# Altium footprint library pin-header.PcbLib: 1 footprints
Each footprint in its own frame and in the unit in brackets; x right, y up, seen from the top. Pads: shape width x height; smd on the part's side, far side on the other; paste and mask are expansions set on the pad; w line width, h text height; cw(c..) or ccw(c..) is an arc to the next point about the centre after c.
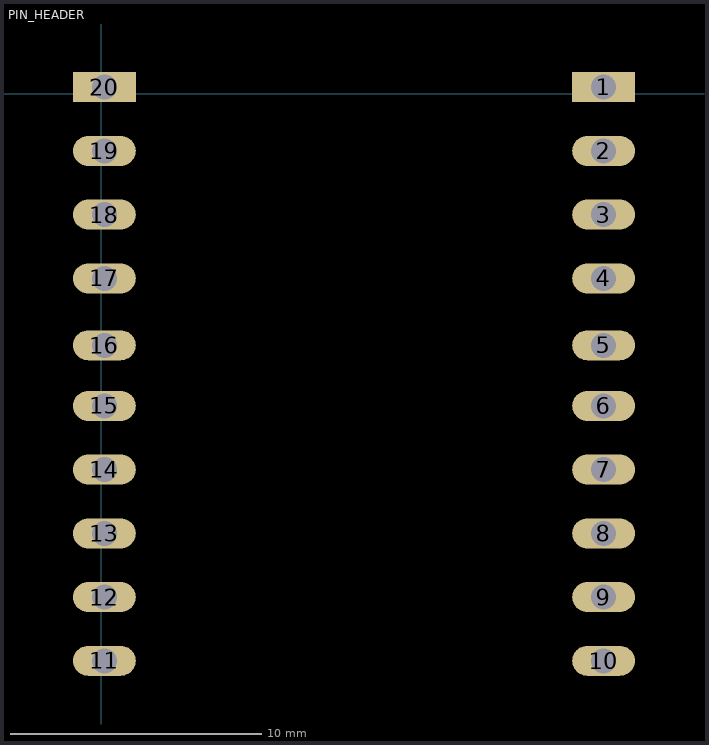
[diagram p0: the footprint, top view; thin cyan lines are the x and y axes]

## PIN_HEADER [mm]
pads (20):
  rect 2.5x1.2 hole 1: 1(20.021,0.254) 20(0.127,0.254)
  oval 2.5x1.2 hole 1: 2(20.021,-2.286) 3(20.021,-4.826) 4(20.021,-7.366) 5(20.021,-10.033) 6(20.021,-12.446) 7(20.021,-14.986) 8(20.021,-17.526) 9(20.021,-20.066) 10(20.021,-22.606) 11(0.127,-22.606) 12(0.127,-20.066) 13(0.127,-17.526) 14(0.127,-14.986) 15(0.127,-12.446) 16(0.127,-10.033) 17(0.127,-7.366) 18(0.127,-4.826) 19(0.127,-2.286)
3D body "User Library-Header1x2_Header1_1.sldprt": height 8.15, standoff -2.83, extent -1.225,-23.876 1.315,-21.336
3D body "User Library-Header1x2_Header1_1.sldprt": height 8.15, standoff -2.83, extent -1.225,-21.336 1.315,-18.796
3D body "User Library-Header1x2_Header1_1.sldprt": height 8.15, standoff -2.83, extent -1.225,-18.796 1.315,-16.256
3D body "User Library-Header1x2_Header1_1.sldprt": height 8.15, standoff -2.83, extent -1.225,-16.256 1.315,-13.716
3D body "User Library-Header1x2_Header1_1.sldprt": height 8.15, standoff -2.83, extent -1.225,-13.716 1.315,-11.176
3D body "User Library-Header1x2_Header1_1.sldprt": height 8.15, standoff -2.83, extent -1.225,-11.176 1.315,-8.636
3D body "User Library-Header1x2_Header1_1.sldprt": height 8.15, standoff -2.83, extent -1.225,-8.636 1.315,-6.096
3D body "User Library-Header1x2_Header1_1.sldprt": height 8.15, standoff -2.83, extent -1.225,-6.096 1.315,-3.556
3D body "User Library-Header1x2_Header1_1.sldprt": height 8.15, standoff -2.83, extent -1.225,-3.556 1.315,-1.016
3D body "User Library-Header1x2_Header1_1.sldprt": height 8.15, standoff -2.83, extent -1.225,-1.016 1.315,1.524
3D body "User Library-Header1x2_Header1_1.sldprt": height 8.15, standoff -2.83, extent 18.669,-23.876 21.209,-21.336
3D body "User Library-Header1x2_Header1_1.sldprt": height 8.15, standoff -2.83, extent 18.669,-21.336 21.209,-18.796
3D body "User Library-Header1x2_Header1_1.sldprt": height 8.15, standoff -2.83, extent 18.669,-18.796 21.209,-16.256
3D body "User Library-Header1x2_Header1_1.sldprt": height 8.15, standoff -2.83, extent 18.669,-16.256 21.209,-13.716
3D body "User Library-Header1x2_Header1_1.sldprt": height 8.15, standoff -2.83, extent 18.669,-13.716 21.209,-11.176
3D body "User Library-Header1x2_Header1_1.sldprt": height 8.15, standoff -2.83, extent 18.669,-11.176 21.209,-8.636
3D body "User Library-Header1x2_Header1_1.sldprt": height 8.15, standoff -2.83, extent 18.669,-8.636 21.209,-6.096
3D body "User Library-Header1x2_Header1_1.sldprt": height 8.15, standoff -2.83, extent 18.669,-6.096 21.209,-3.556
3D body "User Library-Header1x2_Header1_1.sldprt": height 8.15, standoff -2.83, extent 18.669,-3.556 21.209,-1.016
3D body "User Library-Header1x2_Header1_1.sldprt": height 8.15, standoff -2.83, extent 18.669,-1.016 21.209,1.524